# EAGLE library part GP3906-TLP (library SparkFun-GPS)
GP3906-TLP PoT GPS Module The GP3906-TLP is a POT (Patch on Top) GPS module which is special designed for ultra low power consumption purpose environment. It is a GPS receiver providing a solution that high position and speed accuracy performances as well as high sensitivity and tracking capabilities in urban conditions. The GPS chipsets inside the module are designed by MediaTek Inc., which is the world's leading digital media solution provider and largest fab-less IC company in Taiwan. The module can support up to 66 channels. The GPS solution enables small form factor devices. They deliver major advancements in GPS performances, accuracy, integration, computing power and flexibility. They are designed to simplify the embedded system integration process. Features: Based on MediaTek Single Chip Architecture (MT3339). ARM7 based application processor High sensitivity: -165dBm tracking L1 frequency, C/A code Channels: 66 acquisition, 22 simultaneous tracking Low power consumption: 26mA @ acquisition, 20mA @ tracking Cold/Warm/Hot start time: <35/<33/<1 seconds Maximum update rate up to 10Hz GPS data interface: TTL level serial port Support NMEA 0183 standard V3.01 and backward compliance Support SBAS – WAAS, EGNOS, GAGAN and MSAS Dimension：16mm x 16mm x 6.7mm RoHS compliant Advanced software features AlwaysLocate TM advanced location awareness technology EPO TM orbit prediction Supports logger function (LOCUS) SparkFun Products SparkFun GPS Logger Shield <https://www.sparkfun.com/products/13750>
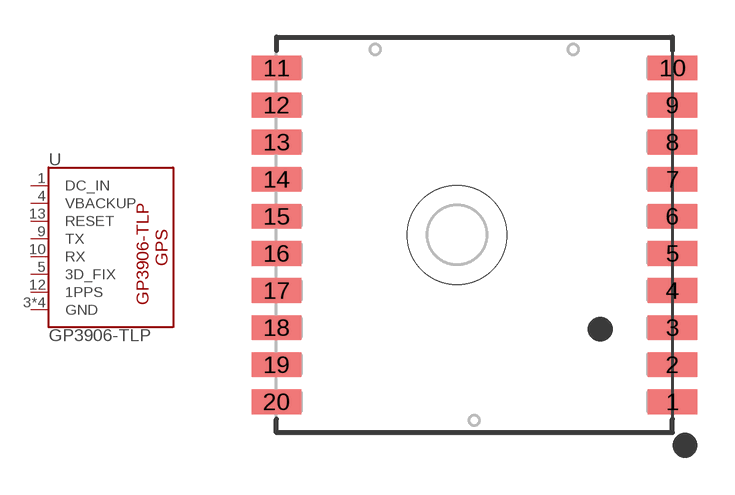
[diagram p8: symbol with the pads of GP3906-TLP; footprint GP3906-TLP]

Designator prefix U

## GP3906-TLP (PROD_ID: GPS-13174)  [GP3906-TLP]
1  DC_IN
3  GND
4  VBACKUP
5  3D_FIX
8  GND
9  TX
10  RX
11  GND
12  1PPS
13  RESET
20  GND

## Footprint GP3906-TLP (pad centres in mm)
GP3906-TLP PoT GPS Module The GP3906-TLP is a POT (Patch on Top) GPS module which is special designed for ultra low power consumption purpose environment. It is a GPS receiver providing a solution that high position and speed accuracy performances as well as high sensitivity and tracking capabilities in urban conditions. The GPS chipsets inside the module are designed by MediaTek Inc., which is the world's leading digital media solution provider and largest fab-less IC company in Taiwan. The module can support up to 66 channels. The GPS solution enables small form factor devices. They deliver major advancements in GPS performances, accuracy, integration, computing power and flexibility. They are designed to simplify the embedded system integration process. Features: Based on MediaTek Single Chip Architecture (MT3339). ARM7 based application processor High sensitivity: -165dBm tracking L1 frequency, C/A code Channels: 66 acquisition, 22 simultaneous tracking Low power consumption: 26mA @ acquisition, 20mA @ tracking Cold/Warm/Hot start time: <35/<33/<1 seconds Maximum update rate up to 10Hz GPS data interface: TTL level serial port Support NMEA 0183 standard V3.01 and backward compliance Support SBAS – WAAS, EGNOS, GAGAN and MSAS Dimension：16mm x 16mm x 6.7mm RoHS compliant Advanced software features AlwaysLocate TM advanced location awareness technology EPO TM orbit prediction Supports logger function (LOCUS) Datasheet <https://cdn.sparkfun.com/assets/learn_tutorials/4/6/8/GP3906-TLP_DataSheet_Rev_A01.pdf>
smd 2 x 1: 1 8,-6.75; 2 8,-5.25; 3 8,-3.75; 4 8,-2.25; 5 8,-0.75; 6 8,0.75; 7 8,2.25; 8 8,3.75; 9 8,5.25; 10 8,6.75; 11 -8,6.75; 12 -8,5.25; 13 -8,3.75; 14 -8,2.25; 15 -8,0.75; 16 -8,-0.75; 17 -8,-2.25; 18 -8,-3.75; 19 -8,-5.25; 20 -8,-6.75
hole 4 at -0.7,0